# EAGLE library part AD5245 (library AD5245)
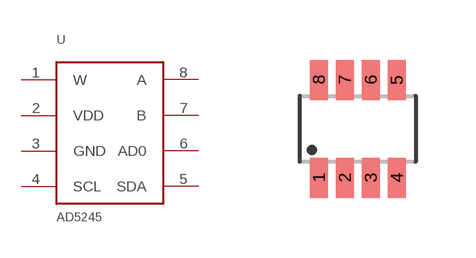
[diagram p0: symbol with the pads of SOT23-8; footprint SOT23-8]

Designator prefix U

## AD5245  [SOT23-8]
1  W
2  VDD
3  GND
4  SCL
5  SDA
6  AD0
7  B
8  A

## Footprint SOT23-8 (pad centres in mm)
smd 0.45 x 1: 1 -0.975,-1.225; 2 -0.325,-1.225; 3 0.325,-1.225; 4 0.975,-1.225; 5 0.975,1.225; 6 0.325,1.225; 7 -0.325,1.225; 8 -0.975,1.225